# Altium footprint library fnc4.PcbLib: 6 footprints
Each footprint in its own frame and in the unit in brackets; x right, y up, seen from the top. Pads: shape width x height; smd on the part's side, far side on the other; paste and mask are expansions set on the pad; w line width, h text height; cw(c..) or ccw(c..) is an arc to the next point about the centre after c.
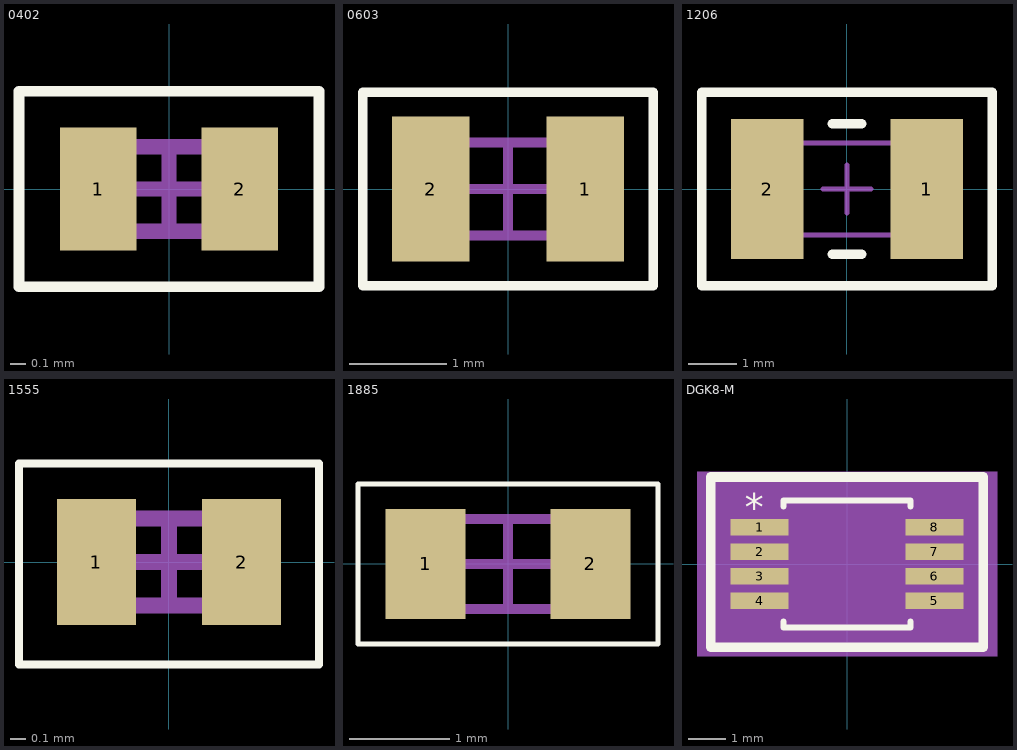
[diagram p0: the footprints below, top view; thin cyan lines are the x and y axes]

## 0402 [mm] "Chip Capacitor, 2-Leads, Body 1,00x0,50mm, IPC Medium Density"
height 0.38
pads (2):
  rect 0.5x0.8 smd: 1(-0.46,0) 2(0.46,0)
Top Overlay:
  lines w0.07: -0.975,-0.635 -0.975,0.635 0.975,0.635 0.975,-0.635 -0.975,-0.635
Mechanical 13:
  lines w0.1: -0.525,-0.275 -0.525,0.275 0.525,0.275 0.525,-0.275 -0.525,-0.275
Mechanical 15:
  lines w0.1: -0.275,0 0.275,0 ; 0,-0.275 0,0.275
3D body: height 0.38, standoff 0, extent -0.325,-0.275 0.325,0.275
3D body: height 0.38, standoff 0, extent -0.525,-0.275 -0.325,0.275
3D body: height 0.38, standoff 0, extent 0.325,-0.275 0.525,0.275

## 0603 [mm]
height 0.7
pads (2):
  rect 0.8x1.5 smd: 1(0.8,0) 2(-0.8,0)
Top Overlay:
  lines w0.1: -1.5,-1 -1.5,1 1.5,1 1.5,-1 -1.5,-1
Mechanical 13:
  lines w0.1: -0.875,-0.48 0.875,-0.48 0.875,0.48 -0.875,0.48 -0.875,-0.48
Mechanical 15:
  lines w0.1: -0.48,0 0.48,0 ; 0,-0.48 0,0.48
3D body: height 0.7, standoff 0, extent 0.525,-0.48 0.875,0.48
3D body: height 0.7, standoff 0, extent -0.875,-0.48 -0.525,0.48
3D body: height 0.7, standoff 0, extent -0.525,-0.48 0.525,0.48

## 1206 [mm]
height 0.7
pads (2):
  rect 1.5x2.9 smd: 1(1.65,0) 2(-1.65,0)
Top Overlay:
  lines w0.2: -0.3,-1.35 0.3,-1.35 ; -0.3,1.35 0.3,1.35 ; -3,-2 -3,2 3,2 3,-2 -3,-2
Mechanical 13:
  lines w0.1: -1.75,-0.95 1.75,-0.95 1.75,0.95 -1.75,0.95 -1.75,-0.95
Mechanical 15:
  lines w0.1: -0.5,0 0.5,0 ; 0,-0.5 0,0.5
3D body: height 0.7, standoff 0, extent 1.25,-0.95 1.75,0.95
3D body: height 0.7, standoff 0, extent -1.75,-0.95 -1.25,0.95
3D body: height 0.7, standoff 0, extent -1.25,-0.95 1.25,0.95

## 1555 [mm] "Chip Capacitor, 2-Leads, Body 1,00x0,50mm, IPC Medium Density"
height 0.38
pads (2):
  rect 0.5x0.8 smd: 1(-0.46,0) 2(0.46,0)
Top Overlay:
  lines w0.05: -0.95,-0.65 -0.95,0.625 0.95,0.625 0.95,-0.65 -0.95,-0.65
Mechanical 13:
  lines w0.1: -0.525,-0.275 0.525,-0.275 0.525,0.275 -0.525,0.275 -0.525,-0.275
Mechanical 15:
  lines w0.1: -0.275,0 0.275,0 ; 0,-0.275 0,0.275
3D body: height 0.38, standoff 0, extent 0.325,-0.275 0.525,0.275
3D body: height 0.38, standoff 0, extent -0.525,-0.275 -0.325,0.275
3D body: height 0.38, standoff 0, extent -0.325,-0.275 0.325,0.275

## 1885 [mm]
pads (2):
  rect 0.8x1.1 smd: 1(-0.825,0) 2(0.825,0)
Top Overlay:
  lines w0.05: -1.5,-0.8 -1.5,0.8 1.5,0.8 1.5,-0.8 -1.5,-0.8
Mechanical 13:
  lines w0.1: -0.85,-0.45 0.85,-0.45 0.85,0.45 -0.85,0.45 -0.85,-0.45
Mechanical 15:
  lines w0.1: -0.45,0 0.45,0 ; 0,-0.45 0,0.45
3D body: height 0.8, standoff 0, extent 0.55,-0.45 0.85,0.45
3D body: height 0.8, standoff 0, extent -0.85,-0.45 -0.55,0.45
3D body: height 0.8, standoff 0, extent -0.55,-0.45 0.55,0.45

## DGK8-M [mm]
pads (8):
  rect 1.528x0.431 smd paste+0 mask+0: 1(-2.313,0.975) 2(-2.313,0.325) 3(-2.313,-0.325) 4(-2.313,-0.975) 5(2.313,-0.975) 6(2.313,-0.325) 7(2.313,0.325) 8(2.313,0.975)
Top Overlay:
  lines w0.152: -1.676,-1.523 -1.676,-1.676 1.676,-1.676 1.676,-1.523 ; -1.676,1.523 -1.676,1.676 1.676,1.676 1.676,1.523
  lines w0.254: -3.6,-2.2 -3.6,2.3 0.7,2.3 3.6,2.3 3.6,-2.2 -3.6,-2.2
  text "*" at -2.7,0.9 h1.27
Mechanical 5:
  region: 3.966,-2.438 -3.966,-2.438 -3.966,2.438 3.966,2.438
Mechanical 13:
  lines w0: -0.305,1.549 ccw(c0,1.549) 0.305,1.549
  lines w0.025: -2.527,-1.165 -2.527,-0.784 -1.549,-0.784 -1.549,-1.165 -2.527,-1.165 ; -2.527,-0.516 -2.527,-0.135 -1.549,-0.135 -1.549,-0.516 -2.527,-0.516 ; -2.527,0.135 -2.527,0.516 -1.549,0.516 -1.549,0.135 -2.527,0.135 ; -2.527,0.784 -2.527,1.165 -1.549,1.165 -1.549,0.784 -2.527,0.784 ; -1.549,-1.549 1.549,-1.549 1.549,1.549 -1.549,1.549 -1.549,-1.549 ; 1.549,-1.165 1.549,-0.784 2.527,-0.784 2.527,-1.165 1.549,-1.165 ; 1.549,-0.516 1.549,-0.135 2.527,-0.135 2.527,-0.516 1.549,-0.516 ; 1.549,0.135 1.549,0.516 2.527,0.516 2.527,0.135 1.549,0.135 ; 1.549,0.784 1.549,1.165 2.527,1.165 2.527,0.784 1.549,0.784
  text "*" at -1.486,0.203 h1.27
Mechanical 15:
  region: -2.057,-1.699 -3.585,-1.699 -3.585,1.699 -2.057,1.699 -2.057,2.057 2.057,2.057 2.057,1.699 3.585,1.699 3.585,-1.699 2.057,-1.699 2.057,-2.057 -2.057,-2.057
  lines w0.152: -3.585,-1.699 -3.585,1.699 -2.057,1.699 -2.057,2.057 2.057,2.057 2.057,1.699 3.585,1.699 3.585,-1.699 2.057,-1.699 2.057,-2.057 -2.057,-2.057 -2.057,-1.699 -3.585,-1.699
3D body "DGK8.step": height 1.09, standoff 0, extent -2.527,-1.549 2.527,1.549